# Altium footprint library Upverter Library.PCBLIB: 1 footprints
Each footprint in its own frame and in the unit in brackets; x right, y up, seen from the top. Pads: shape width x height; smd on the part's side, far side on the other; paste and mask are expansions set on the pad; w line width, h text height; cw(c..) or ccw(c..) is an arc to the next point about the centre after c.
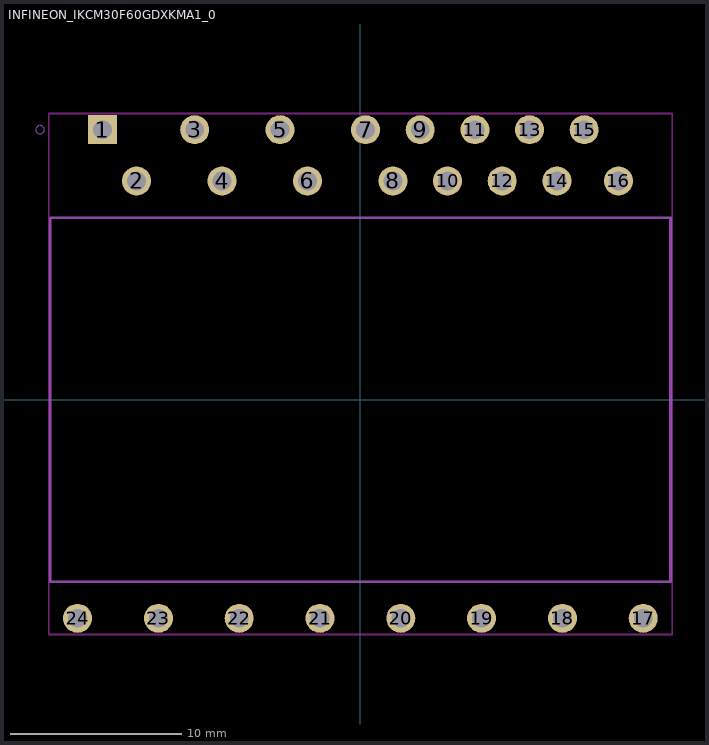
[diagram p0: the footprint, top view; thin cyan lines are the x and y axes]

## INFINEON_IKCM30F60GDXKMA1_0 [mm]
pads (24):
  rect 1.7x1.7 / inner round 1.571 / far side rect 1.7x1.7 hole 1.1: 1(-15.1,15.8)
  round 1.7 hole 1.1: 2(-13.1,12.8) 3(-9.7,15.8) 4(-8.1,12.8) 5(-4.7,15.8) 6(-3.1,12.8) 7(0.3,15.8) 8(1.9,12.8) 9(3.5,15.8) 10(5.1,12.8) 11(6.7,15.8) 12(8.3,12.8) 13(9.9,15.8) 14(11.5,12.8) 15(13.1,15.8) 16(15.1,12.8) 17(16.555,-12.8) 18(11.825,-12.8) 19(7.095,-12.8) 20(2.365,-12.8) 21(-2.365,-12.8) 22(-7.095,-12.8) 23(-11.825,-12.8) 24(-16.555,-12.8)
Top keep-out:
  lines w0.1: -18.25,-13.75 18.25,-13.75 18.25,16.75 -18.25,16.75 -18.25,-13.75
tDocu:
  lines w0.15: -18.15,-10.65 18.15,-10.65 18.15,10.65 -18.15,10.65 -18.15,-10.65
tPlace:
  circle w0: c-18.75,15.8 r0.25
  lines w0.15: -18.15,-10.65 -18.15,10.65 18.15,10.65 18.15,-10.65 -18.15,-10.65